# EAGLE library part IND_VP1 (library wheat)
Inductor / Transformer Coiltronics VP1
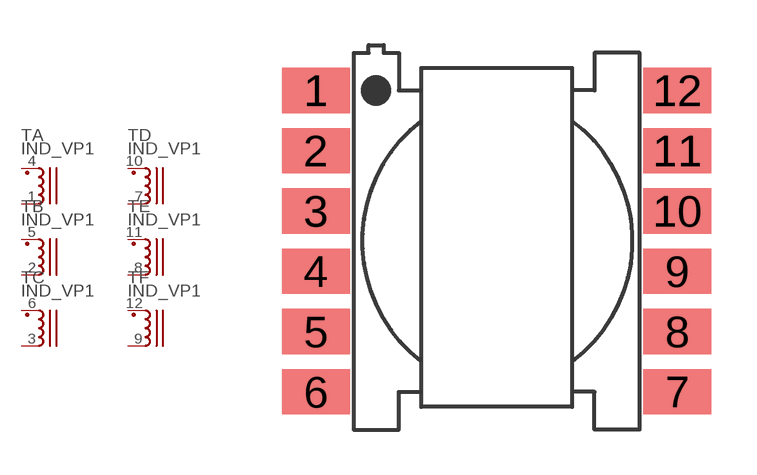
[diagram p99: symbol with the pads of XFMR_VP1; footprint XFMR_VP1]

Designator prefix T; gates A=IND B=IND C=IND D=IND E=IND F=IND

## IND_VP1  [XFMR_VP1]
1  A:2  pas
2  B:2  pas
3  C:2  pas
4  A:1  pas
5  B:1  pas
6  C:1  pas
7  D:2  pas
8  E:2  pas
9  F:2  pas
10  D:1  pas
11  E:1  pas
12  F:1  pas

## Footprint XFMR_VP1 (pad centres in mm)
Transformer, Coiltronics VP1
smd 2.25 x 1.5: 1 -6,5; 2 -6,3; 3 -6,1; 4 -6,-1; 5 -6,-3; 6 -6,-5; 7 6,-5; 8 6,-3; 9 6,-1; 10 6,1; 11 6,3; 12 6,5